# EAGLE library part DM3AT (library SDcard)
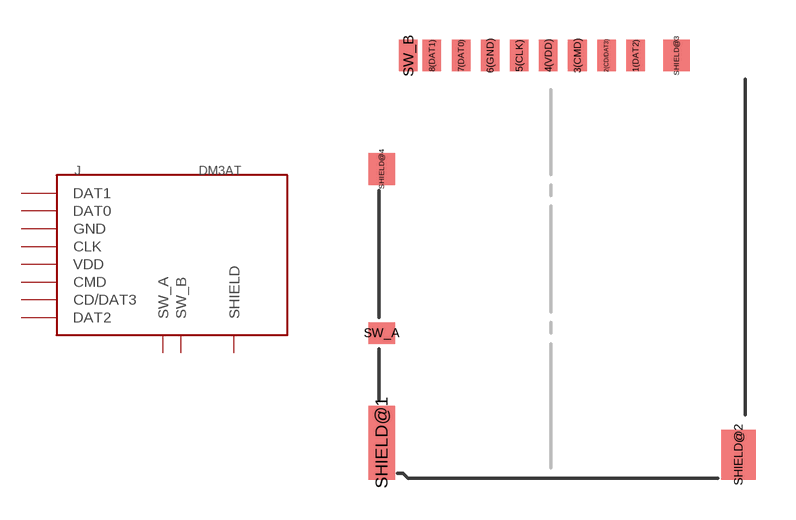
[diagram p1: symbol with the pads of DM3AT-SF-PEJM5; footprint DM3AT-SF-PEJM5]

Designator prefix J

## DM3AT-SF-PEJM5  [DM3AT-SF-PEJM5]
1(DAT2)  DAT2
2(CD/DAT3)  CD/DAT3
3(CMD)  CMD
4(VDD)  VDD
5(CLK)  CLK
6(GND)  GND
7(DAT0)  DAT0
8(DAT1)  DAT1
SHIELD@1  SHIELD
SHIELD@2  SHIELD
SHIELD@3  SHIELD
SHIELD@4  SHIELD
SW_A  SW_A
SW_B  SW_B

## Footprint DM3AT-SF-PEJM5 (pad centres in mm)
smd 0.7 x 1.2: 1(DAT2) 0,0.6; 2(CD/DAT3) -1.1,0.6; 3(CMD) -2.2,0.6; 4(VDD) -3.3,0.6; 5(CLK) -4.4,0.6; 6(GND) -5.5,0.6; 7(DAT0) -6.6,0.6; 8(DAT1) -7.7,0.6; SW_B -8.6,0.6
smd 1 x 2.8: SHIELD@1 -9.6,-14.05
smd 1.3 x 1.9: SHIELD@2 3.9,-14.5
smd 1 x 1.2: SHIELD@3 1.55,0.6; SHIELD@4 -9.6,-3.7
smd 1 x 0.8: SW_A -9.6,-9.9